# Altium schematic symbol library lib-PanelMountConnectors.SchLib: 1 symbol
Pins are listed as number, name and electrical type; pins without a type are passive.

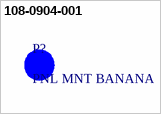
[diagram p0: symbol 108-0904-001]

## 108-0904-001
designator P?, comment PNL MNT BANANA  (mechanical)
Banana Jack Connector Standard Banana Solder Tabs Green; Manufacturer 1: *Cinch Connectivity Solutions Johnson; Manufacturer Part Number 1: 108-0904-001; Supplier 1: Digikey; Supplier Part Number 1: J153-ND